# Altium schematic symbol library MotorDriver.SchLib: 1 symbol
Pins are listed as number, name and electrical type; pins without a type are passive.

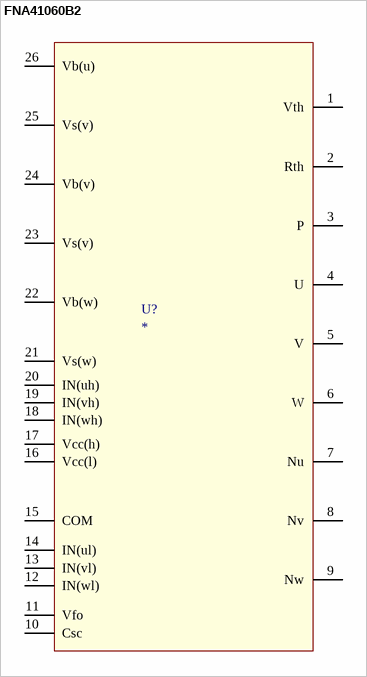
[diagram p0: symbol FNA41060B2]

## FNA41060B2
designator U?
footprint SPMAA-C26
pins: 1 Vth, 2 Rth, 3 P, 4 U, 5 V, 6 W, 7 Nu, 8 Nv, 9 Nw, 10 Csc, 11 Vfo, 12 IN(wl), 13 IN(vl), 14 IN(ul), 15 COM, 16 Vcc(l), 17 Vcc(h), 18 IN(wh), 19 IN(vh), 20 IN(uh), 21 Vs(w), 22 Vb(w), 23 Vs(v), 24 Vb(v), 25 Vs(v), 26 Vb(u)